# Altium schematic symbol library SCH_Special.SchLib: 6 symbols
Pins are listed as number, name and electrical type; pins without a type are passive.

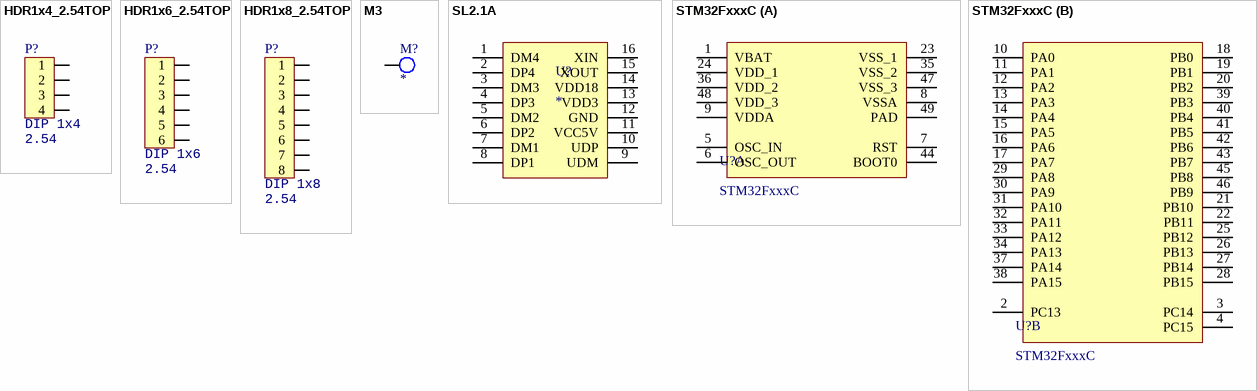
[diagram p0: symbols HDR1x4_2.54TOP to STM32FxxxC]

## HDR1x4_2.54TOP
designator P?, comment value 2.54  Type: DIP 1x4  (hidden comment: HDR1x4)
Header Top
footprint HDR1x4_TOP
pins: 1, 2, 3, 4

## HDR1x6_2.54TOP
designator P?, comment value 2.54  Type: DIP 1x6  (hidden comment: HDR1x6)
Header Top
footprint HDR1x6_TOP
pins: 1, 2, 3, 4, 5, 6

## HDR1x8_2.54TOP
designator P?, comment value 2.54  Type: DIP 1x8  (hidden comment: HDR1x8)
Header Top
footprint HDR1x8_TOP
footprint HDR1X8_H
pins: 1, 2, 3, 4, 5, 6, 7, 8

## M3
designator M?
M3 Nut
footprint M3
pins: 1

## SL2.1A
designator U?
USB HUB
footprint SOP16
pins: 1 DM4, 2 DP4, 3 DM3, 4 DP3, 5 DM2, 6 DP2, 7 DM1, 8 DP1, 9 UDM, 10 UDP, 11 VCC5V, 12 GND, 13 VDD3, 14 VDD18, 15 XOUT, 16 XIN

## STM32FxxxC
designator U?
MCU ST; Manufacturer: STMicroelectronics; Note: CortexM3; Type: LQFP48 P0.5; Specification: *; Value: *
footprint LQFP_QNF_48
part A pins: 1 VBAT, 5 OSC_IN, 6 OSC_OUT, 7 RST, 8 VSSA, 9 VDDA, 23 VSS_1, 24 VDD_1, 35 VSS_2, 36 VDD_2, 44 BOOT0, 47 VSS_3, 48 VDD_3, 49 PAD
part B pins: 2 PC13, 3 PC14, 4 PC15, 10 PA0, 11 PA1, 12 PA2, 13 PA3, 14 PA4, 15 PA5, 16 PA6, 17 PA7, 18 PB0, 19 PB1, 20 PB2, 21 PB10, 22 PB11, 25 PB12, 26 PB13, 27 PB14, 28 PB15, 29 PA8, 30 PA9, 31 PA10, 32 PA11, 33 PA12, 34 PA13, 37 PA14, 38 PA15, 39 PB3, 40 PB4, 41 PB5, 42 PB6, 43 PB7, 45 PB8, 46 PB9